# EAGLE library part FM24W256 (library lib_stankus)
FM24W256 Farnell #2077752
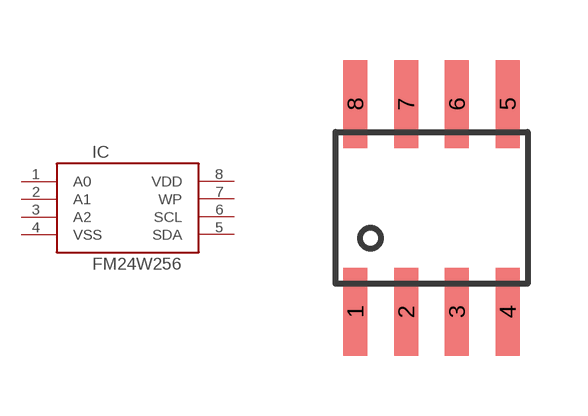
[diagram p113: symbol with the pads of SOIC8; footprint SOIC8]

Designator prefix IC

## FM24W256-SOIC8  [SOIC8]
1  A0  pas
2  A1  pas
3  A2  pas
4  VSS  pas
5  SDA  pas
6  SCL  pas
7  WP  pas
8  VDD  pas

## Footprint SOIC8 (pad centres in mm)
SOIC8
smd 0.6 x 2.2: 1 -1.905,-2.6; 2 -0.635,-2.6; 3 0.635,-2.6; 4 1.905,-2.6; 5 1.905,2.6; 6 0.635,2.6; 7 -0.635,2.6; 8 -1.905,2.6